# Altium footprint library DIP.PcbLib: 3 footprints
Each footprint in its own frame and in the unit in brackets; x right, y up, seen from the top. Pads: shape width x height; smd on the part's side, far side on the other; paste and mask are expansions set on the pad; w line width, h text height; cw(c..) or ccw(c..) is an arc to the next point about the centre after c.
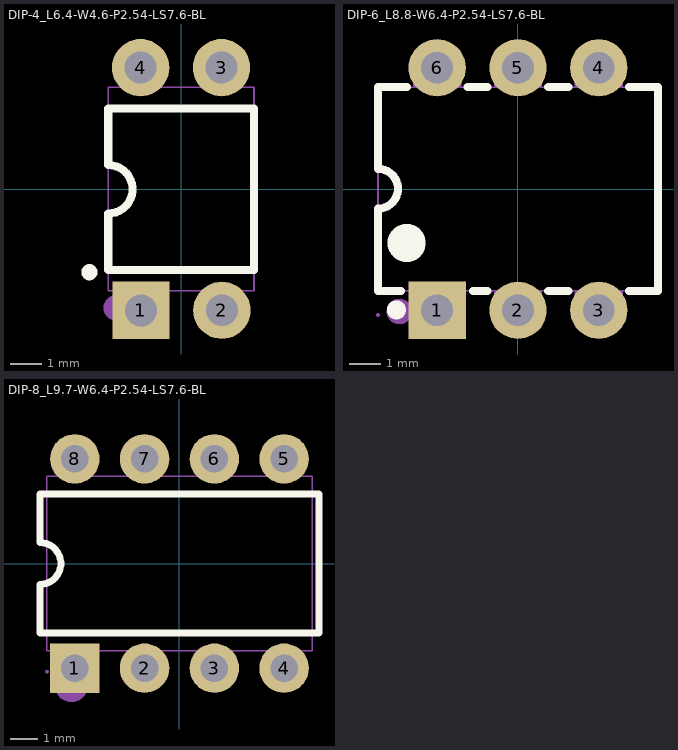
[diagram p0: the footprints below, top view; thin cyan lines are the x and y axes]

## DIP-4_L6.4-W4.6-P2.54-LS7.6-BL [mm]
pads (4):
  rect 1.8x1.8 hole 1: 1(-1.265,-3.81)
  round 1.8 hole 1 copper offset 0,0: 2(1.275,-3.81) 3(1.265,3.81) 4(-1.275,3.81)
Top Overlay:
  circle w0.254: c-2.882,-2.613 r0.127
  lines w0.254: -2.291,-2.542 -2.291,-0.77 ccw(c-2.291,-0.008) -2.291,0.754 -2.291,2.532 2.281,2.532 2.281,-2.542 -2.291,-2.542
Mechanical 6:
  circle w0.4: c-2.04,-3.73 r0.2
Mechanical 15:
  region: -1.02,-3.685 -1.02,-3.935 -1.52,-3.935 -1.52,-3.685
  region: -1.88,3.935 -0.66,3.935 -0.66,3.19 -1.88,3.19
  region: 0.66,3.935 1.88,3.935 1.88,3.19 0.66,3.19
  region: 1.88,-3.935 0.66,-3.935 0.66,-3.19 1.88,-3.19
  region: -0.66,-3.935 -1.88,-3.935 -1.88,-3.19 -0.66,-3.19
  region: 1.52,3.935 1.52,3.685 1.02,3.685 1.02,3.935
  region: -1.02,3.935 -1.02,3.685 -1.52,3.685 -1.52,3.935
  region: 1.52,-3.685 1.52,-3.935 1.02,-3.935 1.02,-3.685
  region: -2.235,-3.935 -2.236,-3.911 -2.271,-3.876 -2.32,-3.876 -2.355,-3.91 -2.355,-3.935 -2.355,-3.96 -2.32,-3.994 -2.271,-3.994 -2.236,-3.96 -2.235,-3.935
  lines w0.051: -2.295,-3.2 -2.295,3.2 2.285,3.2 2.285,-3.2 -2.295,-3.2
3D body "U1.step": height 4.29, standoff -3, extent -2.3,-3.91 2.3,3.91

## DIP-6_L8.8-W6.4-P2.54-LS7.6-BL [mm]
pads (6):
  rect 1.8x1.8 hole 1: 1(-2.54,-3.81)
  round 1.8 hole 1: 2(0,-3.81) 3(2.54,-3.81) 4(2.54,3.81) 5(0,3.81) 6(-2.54,3.81)
Top Overlay:
  lines w0.254: -4.4,-0.619 -4.4,-3.2 -3.671,-3.2 ; -4.399,-0.62 ccw(c-4.4,0.008) -4.4,0.635 -4.4,3.2 -3.492,3.2 ; -1.588,3.2 -0.952,3.2 ; -1.409,-3.2 -0.952,-3.2 ; 0.952,-3.2 1.588,-3.2 ; 0.952,3.2 1.588,3.2 ; 3.492,-3.2 4.4,-3.2 4.4,3.2 3.492,3.2
  lines w0.3: -3.97,-3.8 ccw(c-3.82,-3.799) -3.97,-3.797
  lines w0.6: -3.8,-1.699 ccw(c-3.5,-1.697) -3.8,-1.694
Mechanical 6:
  circle w0.4: c-3.73,-3.85 r0.2
Mechanical 15:
  region: 1.79,3.96 3.29,3.96 3.29,3.19 1.79,3.19
  region: 3.29,-3.96 1.79,-3.96 1.79,-3.19 3.29,-3.19
  region: -0.75,3.96 0.75,3.96 0.75,3.19 -0.75,3.19
  region: 0.75,-3.96 -0.75,-3.96 -0.75,-3.19 0.75,-3.19
  region: -3.29,3.96 -1.79,3.96 -1.79,3.19 -3.29,3.19
  region: -1.79,-3.96 -3.29,-3.96 -3.29,-3.19 -1.79,-3.19
  region: 2.29,-3.66 2.79,-3.66 2.79,-3.96 2.29,-3.96
  region: -0.25,-3.66 0.25,-3.66 0.25,-3.96 -0.25,-3.96
  region: -2.29,-3.96 -2.79,-3.96 -2.79,-3.66 -2.29,-3.66
  region: -2.79,3.96 -2.29,3.96 -2.29,3.66 -2.79,3.66
  region: -0.25,3.96 0.25,3.96 0.25,3.66 -0.25,3.66
  region: 2.29,3.96 2.79,3.96 2.79,3.66 2.29,3.66
  region: -4.34,-3.96 -4.34,-3.935 -4.375,-3.9 -4.425,-3.9 -4.46,-3.935 -4.46,-3.96 -4.46,-3.985 -4.425,-4.02 -4.375,-4.02 -4.34,-3.985 -4.34,-3.96
  lines w0.051: -4.4,-3.2 4.4,-3.2 4.4,3.2 -4.4,3.2 -4.4,-3.2
3D body "U2.step": height 4.36, standoff -3, extent -4.35,-3.96 4.35,3.96

## DIP-8_L9.7-W6.4-P2.54-LS7.6-BL [mm]
pads (8):
  rect 1.8x1.8 hole 1 paste+0 mask+0.05: 1(-3.81,-3.81)
  round 1.8 hole 1 paste+0 mask+0.05: 2(-1.27,-3.81) 3(1.27,-3.81) 4(3.81,-3.81) 5(3.81,3.81) 6(1.27,3.81) 7(-1.27,3.81) 8(-3.81,3.81)
Top Overlay:
  lines w0.254: -5.08,-2.531 5.08,-2.531 5.08,2.534 -5.08,2.534 -5.08,0.762 cw(c-5.08,0) -5.08,-0.762 -5.08,-2.531
Mechanical 6:
  circle w0.6: c-3.937,-4.445 r0.3
Mechanical 15:
  region: -4.766,-3.937 -4.767,-3.913 -4.801,-3.878 -4.85,-3.878 -4.885,-3.912 -4.886,-3.937 -4.885,-3.961 -4.851,-3.996 -4.802,-3.996 -4.767,-3.961
  region: 1.865,-3.937 0.665,-3.937 0.665,-3.165 1.865,-3.165
  region: -4.06,-3.683 -3.56,-3.683 -3.56,-3.937 -4.06,-3.937
  region: -1.52,-3.683 -1.02,-3.683 -1.02,-3.937 -1.52,-3.937
  region: 1.02,-3.683 1.52,-3.683 1.52,-3.937 1.02,-3.937
  region: 3.56,-3.683 4.06,-3.683 4.06,-3.937 3.56,-3.937
  region: 3.56,3.937 4.06,3.937 4.06,3.683 3.56,3.683
  region: 1.02,3.937 1.52,3.937 1.52,3.683 1.02,3.683
  region: -1.52,3.937 -1.02,3.937 -1.02,3.683 -1.52,3.683
  region: -4.06,3.937 -3.56,3.937 -3.56,3.683 -4.06,3.683
  region: 4.405,-3.937 3.205,-3.937 3.205,-3.165 4.405,-3.165
  region: -0.675,-3.937 -1.875,-3.937 -1.875,-3.165 -0.675,-3.165
  region: -3.215,-3.937 -4.415,-3.937 -4.415,-3.165 -3.215,-3.165
  region: -3.215,3.165 -4.415,3.165 -4.415,3.937 -3.215,3.937
  region: -0.675,3.165 -1.875,3.165 -1.875,3.937 -0.675,3.937
  region: 1.865,3.165 0.665,3.165 0.665,3.937 1.865,3.937
  region: 4.405,3.165 3.205,3.165 3.205,3.937 4.405,3.937
  lines w0.051: -4.826,-3.175 4.826,-3.175 4.826,3.175 -4.826,3.175 -4.826,-3.175
3D body "光耦.step": height 4.16, standoff -3.5, extent -4.83,-3.91 4.83,3.91